# Altium schematic symbol library MOSFET,2xN Ch,60V,0.3A.Schlib: 1 symbol
Pins are listed as number, name and electrical type; pins without a type are passive.

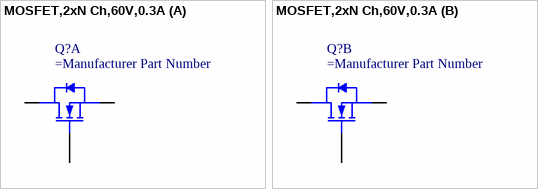
[diagram p0: symbol MOSFET,2xN Ch,60V,0.3A]

## MOSFET,2xN Ch,60V,0.3A
designator Q?
N-Channel 30V 5A (Ta) 1.3W (Ta) Surface Mount Micro3™/SOT-23
part A pins: 1 S1, 2 G1, 6 D1
part B pins: 3 D2, 4 S2, 5 G2